# Altium schematic symbol library JFET-N.Schlib: 1 symbol
Pins are listed as number, name and electrical type; pins without a type are passive.

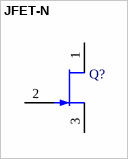
[diagram p0: symbol JFET-N]

## JFET-N
designator Q?
N-Channel JFET
pins: 1 D, 2 G, 3 S